# Altium footprint library PcbLib1.PcbLib: 1 footprints
Each footprint in its own frame and in the unit in brackets; x right, y up, seen from the top. Pads: shape width x height; smd on the part's side, far side on the other; paste and mask are expansions set on the pad; w line width, h text height; cw(c..) or ccw(c..) is an arc to the next point about the centre after c.
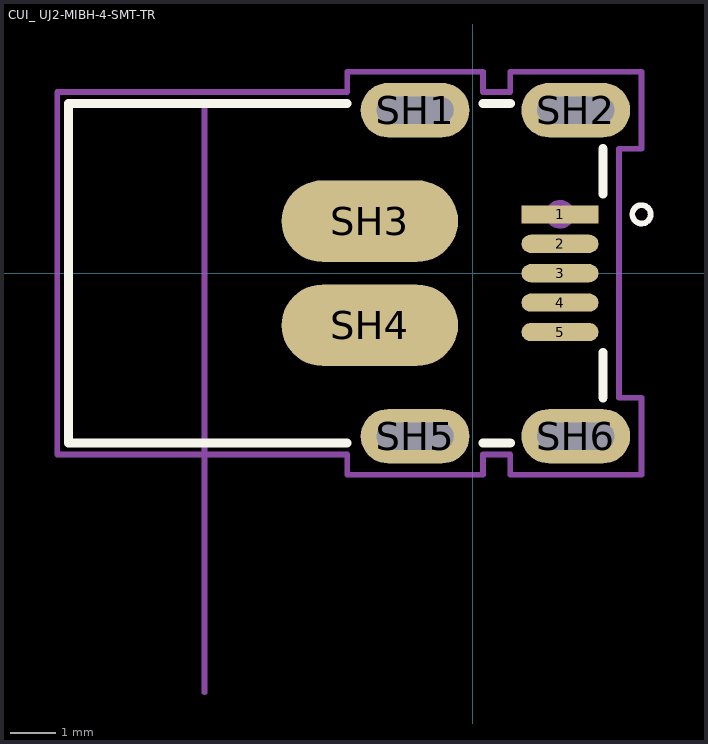
[diagram p0: the footprint, top view; thin cyan lines are the x and y axes]

## CUI_ UJ2-MIBH-4-SMT-TR [mm]
height 2.45
pads (11):
  rect 1.7x0.4 smd: 1(1.925,1.3)
  oval 1.7x0.4 smd: 2(1.925,0.65) 3(1.925,0) 4(1.925,-0.65) 5(1.925,-1.3)
  oval 2.4x1.2 hole 0.6 slot 1.7 at 0 deg: SH1(-1.275,3.6) SH2(2.275,3.6) SH5(-1.275,-3.6) SH6(2.275,-3.6)
  oval 3.9x1.8 smd: SH3(-2.275,1.15) SH4(-2.275,-1.15)
Top Overlay:
  circle w0.127: c3.725,1.3 r0.203
  lines w0.203: -2.775,-3.75 -8.925,-3.75 -8.925,3.75 -2.775,3.75 ; 0.225,-3.75 0.825,-3.75 ; 0.225,3.75 0.825,3.75 ; 2.875,-2.75 2.875,-1.75 ; 2.875,1.75 2.875,2.75
Mechanical 1:
  text "'.Designator'" at 0,0 h1.52
Mechanical 15:
  circle w0.127: c1.925,1.3 r0.254
  lines w0.127: -5.925,-9.25 -5.925,3.75 ; -9.175,-4 -2.775,-4 -2.775,-4.45 0.225,-4.45 0.225,-4 0.825,-4 0.825,-4.45 3.725,-4.45 3.725,-2.75 3.225,-2.75 3.225,2.75 3.725,2.75 3.725,4.45 0.825,4.45 0.825,4 0.225,4 0.225,4.45 -2.775,4.45 -2.775,4 -9.175,4 -9.175,-4
  text "PCB EDGE" at -5.704,-9.264 h0.7
3D body "CUI_DEVICES_UJ2-MIBH-4-SMT.step": height 2.7, standoff -0.66, extent -8.925,-3.75 2.875,3.75